# EAGLE library part NACHTELK_HEADERCONNECTORS_2X4 (library NachtElk_HeaderConnectors)
Nacht Elk. - Header Connectors Ekrem Turan Fırat Nacht Elk. - Header Connectors 2x4 Female or Male Pin Spacing: 2.54mm Mount Type: DIP Operating Temperature: -40°C up to 105°C 17.02.2022
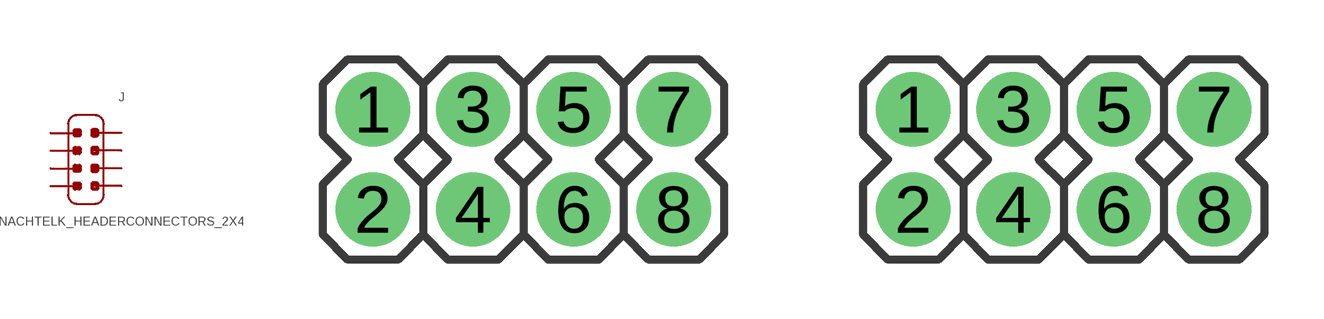
[diagram p13: symbol with the pads of HEADER_2X4; footprints HEADER_2X4, HEADER_2X4F]

Designator prefix J

## NACHTELK_HEADERCONNECTORS_2X4_MALE (MOUNT-TYPE: DIP; TEMPERATURE: -40°C up to 105°C; TYPE: Male; VALUE: 2X4)  [HEADER_2X4]
1  1
2  2
3  3
4  4
5  5
6  6
7  7
8  8

## NACHTELK_HEADERCONNECTORS_2X4_FEMALE (MOUNT-TYPE: DIP; TEMPERATURE: -40°C up to 105°C; TYPE: Female; VALUE: 2x4)  [HEADER_2X4F]
Pads as for HEADER_2X4

## Footprint HEADER_2X4 (pad centres in mm)
Nacht Elk. - Header Connectors Ekrem Turan Fırat 17.02.2022
drill 1.016 pad 1.88: 1 0,0; 2 0,-2.54; 3 2.54,0; 4 2.54,-2.54; 5 5.08,0; 6 5.08,-2.54; 7 7.62,0; 8 7.62,-2.54

## Footprint HEADER_2X4F (pad centres in mm)
Nacht Elk. - Header Connectors Ekrem Turan Fırat 17.02.2022
drill 1.016 pad 1.88: 1 0,0; 2 0,-2.54; 3 2.54,0; 4 2.54,-2.54; 5 5.08,0; 6 5.08,-2.54; 7 7.62,0; 8 7.62,-2.54